# EAGLE library part JST-8PIN (library chromatico)
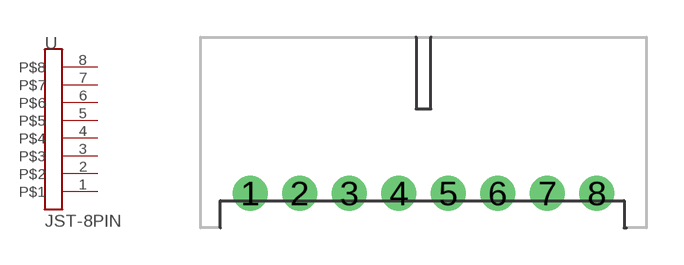
[diagram p1: symbol with the pads of JST-PH-8; footprint JST-PH-8]

Designator prefix -

## JST-8PIN  [JST-PH-8]
1  P$1
2  P$2
3  P$3
4  P$4
5  P$5
6  P$6
7  P$7
8  P$8

## Footprint JST-PH-8 (pad centres in mm)
drill 0.8 pad 1.422: 1 0,0; 2 2,0; 3 4,0; 4 6,0; 5 8,0; 6 10,0; 7 12,0; 8 14,0